# EAGLE library part DFR0478 (library DFR0478_Firebeetle_ESP32)
Development Boards & Kits - Wireless FireBeetle ESP32 IOT MCU Source: Datasheet <https://github.com/Robert-MARKII/Document/blob/master/FireBeetle Board-ESP32 User Manual update.pdf>
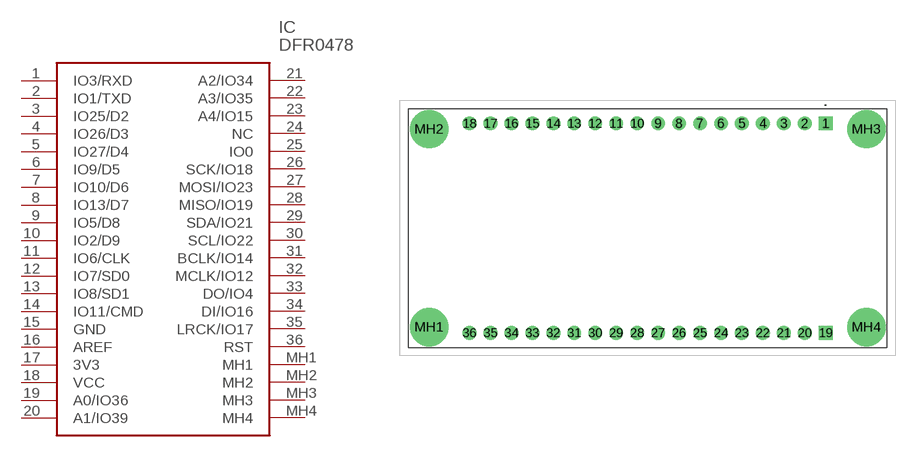
[diagram p0: symbol with the pads of DFR0478; footprint DFR0478]

Designator prefix IC

## DFR0478 (Description: Development Boards & Kits - Wireless FireBeetle ESP32 IOT MCU; Height: 5mm; Manufacturer_Name: DFRobot; Manufacturer_Part_Number: DFR0478)  [DFR0478]
1  IO3/RXD
2  IO1/TXD
3  IO25/D2
4  IO26/D3
5  IO27/D4
6  IO9/D5
7  IO10/D6
8  IO13/D7
9  IO5/D8
10  IO2/D9
11  IO6/CLK
12  IO7/SD0
13  IO8/SD1
14  IO11/CMD
15  GND
16  AREF
17  3V3
18  VCC
19  A0/IO36
20  A1/IO39
21  A2/IO34
22  A3/IO35
23  A4/IO15
24  NC  nc
25  IO0
26  SCK/IO18
27  MOSI/IO23
28  MISO/IO19
29  SDA/IO21
30  SCL/IO22
31  BCLK/IO14
32  MCLK/IO12
33  DO/IO4
34  DI/IO16
35  LRCK/IO17
36  RST
MH1  MH1
MH2  MH2
MH3  MH3
MH4  MH4

## Footprint DFR0478 (pad centres in mm)
FireBeetle ESP32
drill 1.11 pad 1.665 square: 1 21.59,12.7; 19 21.59,-12.7
drill 1.11 pad 1.665: 2 19.05,12.7; 3 16.51,12.7; 4 13.97,12.7; 5 11.43,12.7; 6 8.89,12.7; 7 6.35,12.7; 8 3.81,12.7; 9 1.27,12.7; 10 -1.27,12.7; 11 -3.81,12.7; 12 -6.35,12.7; 13 -8.89,12.7; 14 -11.43,12.7; 15 -13.97,12.7; 16 -16.51,12.7; 17 -19.05,12.7; 18 -21.59,12.7; 20 19.05,-12.7; 21 16.51,-12.7; 22 13.97,-12.7; 23 11.43,-12.7; 24 8.89,-12.7; 25 6.35,-12.7; 26 3.81,-12.7; 27 1.27,-12.7; 28 -1.27,-12.7; 29 -3.81,-12.7; 30 -6.35,-12.7; 31 -8.89,-12.7; 32 -11.43,-12.7; 33 -13.97,-12.7; 34 -16.51,-12.7; 35 -19.05,-12.7; 36 -21.59,-12.7
drill 3.1 pad 4.65: MH1 -26.487,-12; MH2 -26.487,12; MH3 26.513,12; MH4 26.513,-12